# Altium footprint library SQJ403EP.PcbLib: 1 footprints
Each footprint in its own frame and in the unit in brackets; x right, y up, seen from the top. Pads: shape width x height; smd on the part's side, far side on the other; paste and mask are expansions set on the pad; w line width, h text height; cw(c..) or ccw(c..) is an arc to the next point about the centre after c.
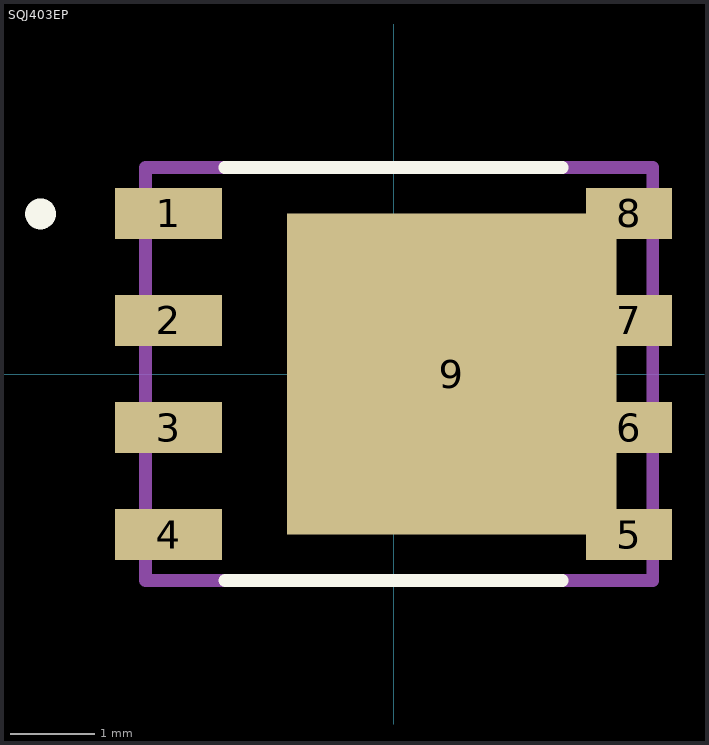
[diagram p0: the footprint, top view; thin cyan lines are the x and y axes]

## SQJ403EP [mm]
pads (9):
  rect 1.27x0.61 smd: 1(-2.67,1.905) 2(-2.67,0.635) 3(-2.67,-0.635) 4(-2.67,-1.905)
  rect 1.02x0.61 smd: 5(2.795,-1.905) 6(2.795,-0.635) 7(2.795,0.635) 8(2.795,1.905)
  rect 3.91x3.81 smd paste-3: 9(0.69,0)
Top Overlay:
  circle w0.254: c-4.19,1.9 r0.056
  lines w0.152: -2.005,2.45 2,2.45 ; -2,-2.45 2,-2.45
Top Paste:
  region: 2.03,-1.38 -0.65,-1.38 -0.65,1.38 2.03,1.38
Mechanical 13:
  lines w0.152: -2.945,-2.45 -2.945,2.45 3.075,2.45 3.075,-2.45 -2.945,-2.45